# Altium schematic symbol library PHOTOTRANS.SchLib: 1 symbol
Pins are listed as number, name and electrical type; pins without a type are passive.

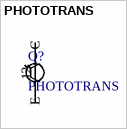
[diagram p0: symbol PHOTOTRANS]

## PHOTOTRANS
designator Q?
Phototransistor symbol
pins: 1 C, 2 E